# EAGLE library part ICL7665SCPAZ (library Intersil_By_element14_Batch_1)
Voltage Detector
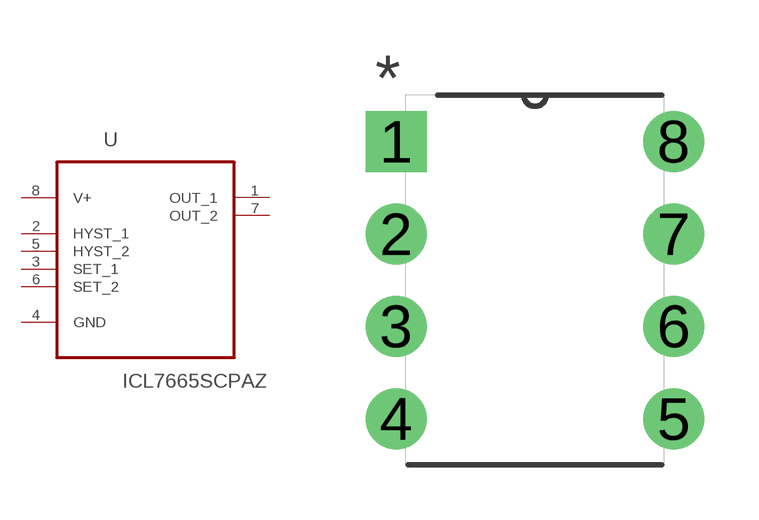
[diagram p196: symbol with the pads of DIP254P762X533-8; footprint DIP254P762X533-8]

Designator prefix U

## ICL7665SCPAZ (MPN: ICL7665SCPAZ; OC_FARNELL: 1018171; OC_NEWARK: 57K3894; PACKAGE: PDIP-8; SUPPLIER: INTERSIL)  [DIP254P762X533-8]
1  OUT_1  out
2  HYST_1  in
3  SET_1  in
4  GND  pas
5  HYST_2  in
6  SET_2  in
7  OUT_2  out
8  V+  pwr

## Footprint DIP254P762X533-8 (pad centres in mm)
drill 1.118 square: 1 -7.62,7.62
drill 1.118: 2 -7.62,5.08; 3 -7.62,2.54; 4 -7.62,0; 5 0,0; 6 0,2.54; 7 0,5.08; 8 0,7.62